# Altium footprint library OthersFP.PcbLib: 5 footprints
Each footprint in its own frame and in the unit in brackets; x right, y up, seen from the top. Pads: shape width x height; smd on the part's side, far side on the other; paste and mask are expansions set on the pad; w line width, h text height; cw(c..) or ccw(c..) is an arc to the next point about the centre after c.
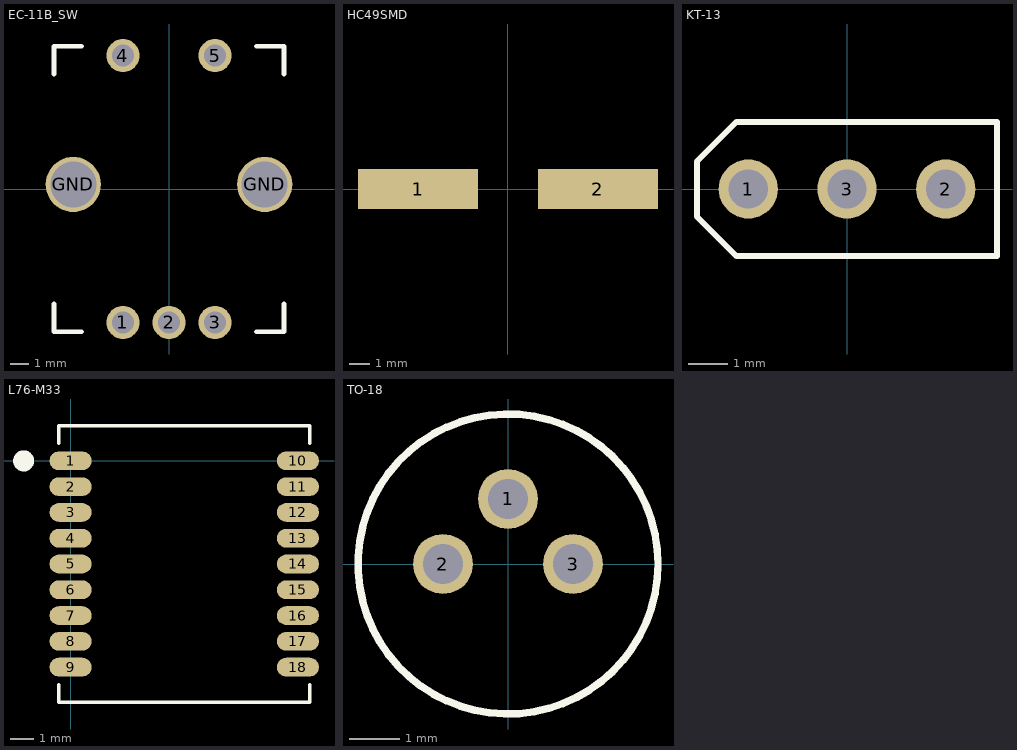
[diagram p0: the footprints below, top view; thin cyan lines are the x and y axes]

## EC-11B_SW [mm] "Rotary_Encoder_Switch"
pads (7):
  round 1.8 hole 1.2 unplated: 1(-2.5,-7.25) 2(0,-7.25) 3(2.5,-7.25) 4(-2.5,7.25) 5(2.5,7.25)
  round 3 hole 2.5 unplated: GND(-5.2,0.25) GND(5.2,0.25)
Top Overlay:
  lines w0.254: -6.25,-6.25 -6.25,-7.75 -4.75,-7.75 ; -6.25,6.25 -6.25,7.75 -4.75,7.75 ; 4.75,-7.75 6.25,-7.75 6.25,-6.25 ; 4.75,7.75 6.25,7.75 6.25,6.25
3D body "EC11B-SW-Vert-15K-blue.step": height 23.9, standoff -1.5, extent -5.997,-7.425 5.997,7.5

## HC49SMD [mm]
pads (2):
  rect 6x2 smd: 1(-4.5,0) 2(4.5,0)
3D body "HC-49SM.stp": height 4, standoff 0, extent -6.7,-2.4 6.7,2.4

## KT-13 [mm]
pads (3):
  round 1.5 hole 1: 1(-2.5,0) 2(2.5,0) 3(0,0)
Top Overlay:
  lines w0.15: -3.8,-0.7 -3.8,0.7 -2.8,1.7 3.8,1.7 3.8,-1.7 -2.8,-1.7 -3.8,-0.7
3D body "KT-13.stp": height 8, standoff -3, extent -3.6,-1.5 3.6,1.5

## L76-M33 [mm]
pads (18):
  oval 1.8x0.8 smd: 1(0,0) 2(0,-1.1) 3(0,-2.2) 4(0,-3.3) 5(0,-4.4) 6(0,-5.5) 7(0,-6.6) 8(0,-7.7) 9(0,-8.8) 10(9.7,0) 11(9.7,-1.1) 12(9.7,-2.2) 13(9.7,-3.3) 14(9.7,-4.4) 15(9.7,-5.5) 16(9.7,-6.6) 17(9.7,-7.7) 18(9.7,-8.8)
Top Overlay:
  circle w0.5: c-2,0 r0.2
  lines w0.15: -0.5,-9.55 -0.5,-10.3 10.2,-10.3 10.2,-9.55 ; -0.5,0.75 -0.5,1.5 10.2,1.5 10.2,0.75
3D body "L76.STEP": height 2.49, standoff 0, extent 0,-9.45 9.7,0.65

## TO-18 [mm]
pads (3):
  round 1.2 hole 0.8: 1(0,1.3) 2(-1.3,0) 3(1.3,0)
Top Overlay:
  circle w0.15: c0,0 r3
3D body "BC107B_PBFREE.stp": height 8.82, standoff -8.7, extent -2.776,-2.987 2.987,2.788